# EAGLE library part BQ76PL536 (library TI)
bq76pl536a - 3 to 6 Series Cell Lithium-Ion Battery Monitor and Secondary Protection IC for EV and HEV Applications Datasheet: http://www.ti.com/lit/ds/symlink/bq76pl536a.pdf Product page: http://www.ti.com/product/bq76pl536a
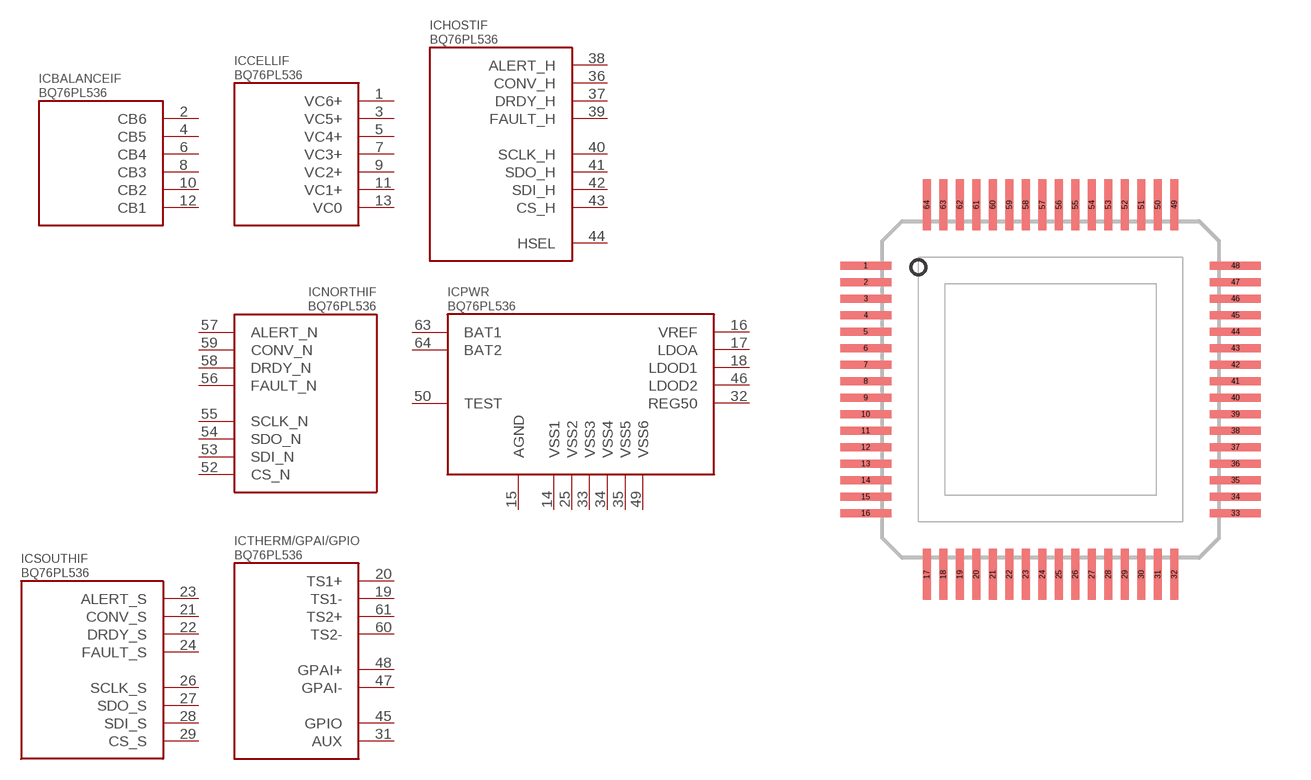
[diagram p7: symbol with the pads of LQFP64-POWERPAD_(S-PQFP-G64); footprint LQFP64-POWERPAD_(S-PQFP-G64)]

Designator prefix IC; gates BALANCEIF=BQ76PL536_BALANCEIF CELLIF=BQ76PL536_CELLIF HOSTIF=BQ76PL536_HOSTIF NORTHIF=BQ76PL536_NORTHIF PWR=BQ76PL536_POWER SOUTHIF=BQ76PL536_SOUTHIF THERM/GPAI/GPIO=BQ76PL536_THERMISTOR/GPAI/GPIO

## BQ76PL536  [LQFP64-POWERPAD_(S-PQFP-G64)]
1  CELLIF:VC6+  in
2  BALANCEIF:CB6  out
3  CELLIF:VC5+  in
4  BALANCEIF:CB5  out
5  CELLIF:VC4+  in
6  BALANCEIF:CB4  out
7  CELLIF:VC3+  in
8  BALANCEIF:CB3  out
9  CELLIF:VC2+  in
10  BALANCEIF:CB2  out
11  CELLIF:VC1+  in
12  BALANCEIF:CB1  out
13  CELLIF:VC0  in
14  PWR:VSS1  pwr
15  PWR:AGND  pwr
16  PWR:VREF  pwr
17  PWR:LDOA  pwr
18  PWR:LDOD1  pwr
19  THERM/GPAI/GPIO:TS1-  in
20  THERM/GPAI/GPIO:TS1+  in
21  SOUTHIF:CONV_S  in
22  SOUTHIF:DRDY_S  out
23  SOUTHIF:ALERT_S  out
24  SOUTHIF:FAULT_S  out
25  PWR:VSS2  pwr
26  SOUTHIF:SCLK_S  in
27  SOUTHIF:SDO_S  out
28  SOUTHIF:SDI_S  in
29  SOUTHIF:CS_S  in
31  THERM/GPAI/GPIO:AUX  out
32  PWR:REG50  pwr
33  PWR:VSS3  pwr
34  PWR:VSS4  pwr
35  PWR:VSS5  pwr
36  HOSTIF:CONV_H  in
37  HOSTIF:DRDY_H  out
38  HOSTIF:ALERT_H  out
39  HOSTIF:FAULT_H  out
40  HOSTIF:SCLK_H  in
41  HOSTIF:SDO_H  out
42  HOSTIF:SDI_H  in
43  HOSTIF:CS_H  in
44  HOSTIF:HSEL  in
45  THERM/GPAI/GPIO:GPIO
46  PWR:LDOD2  pwr
47  THERM/GPAI/GPIO:GPAI-  in
48  THERM/GPAI/GPIO:GPAI+  in
49  PWR:VSS6  pwr
50  PWR:TEST  in
52  NORTHIF:CS_N  out
53  NORTHIF:SDI_N  out
54  NORTHIF:SDO_N  in
55  NORTHIF:SCLK_N  out
56  NORTHIF:FAULT_N  in
57  NORTHIF:ALERT_N  in
58  NORTHIF:DRDY_N  in
59  NORTHIF:CONV_N  out
60  THERM/GPAI/GPIO:TS2-  in
61  THERM/GPAI/GPIO:TS2+  in
63  PWR:BAT1  pwr
64  PWR:BAT2  pwr

## Footprint LQFP64-POWERPAD_(S-PQFP-G64) (pad centres in mm)
PowerPAD Plastic Quad Flat Pack, 64 pins (PAP - S-PQFP-G64) From bq76pl536.pdf ? SLUSA08A
smd 1.55 x 0.25: 1 -5.6,3.75; 2 -5.6,3.25; 3 -5.6,2.75; 4 -5.6,2.25; 5 -5.6,1.75; 6 -5.6,1.25; 7 -5.6,0.75; 8 -5.6,0.25; 9 -5.6,-0.25; 10 -5.6,-0.75; 11 -5.6,-1.25; 12 -5.6,-1.75; 13 -5.6,-2.25; 14 -5.6,-2.75; 15 -5.6,-3.25; 16 -5.6,-3.75; 33 5.6,-3.75; 34 5.6,-3.25; 35 5.6,-2.75; 36 5.6,-2.25; 37 5.6,-1.75; 38 5.6,-1.25; 39 5.6,-0.75; 40 5.6,-0.25; 41 5.6,0.25; 42 5.6,0.75; 43 5.6,1.25; 44 5.6,1.75; 45 5.6,2.25; 46 5.6,2.75; 47 5.6,3.25; 48 5.6,3.75
smd 0.25 x 1.55: 17 -3.75,-5.6; 18 -3.25,-5.6; 19 -2.75,-5.6; 20 -2.25,-5.6; 21 -1.75,-5.6; 22 -1.25,-5.6; 23 -0.75,-5.6; 24 -0.25,-5.6; 25 0.25,-5.6; 26 0.75,-5.6; 27 1.25,-5.6; 28 1.75,-5.6; 29 2.25,-5.6; 30 2.75,-5.6; 31 3.25,-5.6; 32 3.75,-5.6; 49 3.75,5.6; 50 3.25,5.6; 51 2.75,5.6; 52 2.25,5.6; 53 1.75,5.6; 54 1.25,5.6; 55 0.75,5.6; 56 0.25,5.6; 57 -0.25,5.6; 58 -0.75,5.6; 59 -1.25,5.6; 60 -1.75,5.6; 61 -2.25,5.6; 62 -2.75,5.6; 63 -3.25,5.6; 64 -3.75,5.6